# EAGLE library part ATX-PSU-24 (library parts)
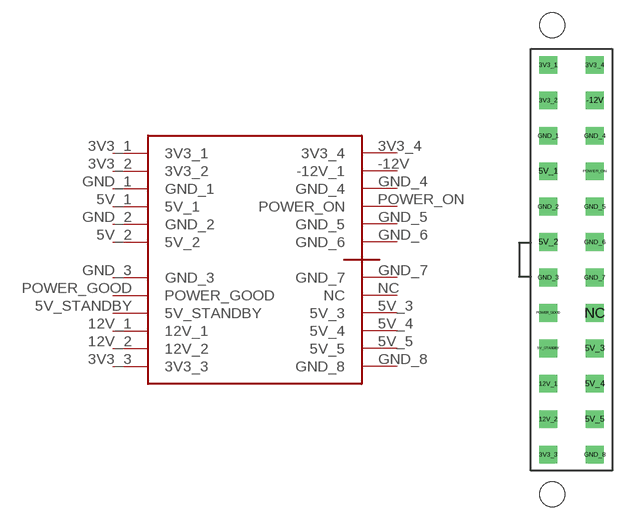
[diagram p0: symbol with the pads of ATX-PSU-24-STRAIGHT; footprint ATX-PSU-24-STRAIGHT]

Designator prefix -

## ATX-PSU-24  [ATX-PSU-24-STRAIGHT]
3V3_1  3V3_1
3V3_2  3V3_2
3V3_3  3V3_3
3V3_4  3V3_4
5V_1  5V_1
5V_2  5V_2
5V_3  5V_3
5V_4  5V_4
5V_5  5V_5
5V_STANDBY  5V_STANDBY
12V_1  12V_1
12V_2  12V_2
-12V  -12V_1
GND_1  GND_1
GND_2  GND_2
GND_3  GND_3
GND_4  GND_4
GND_5  GND_5
GND_6  GND_6
GND_7  GND_7
GND_8  GND_8
NC  NC
POWER_GOOD  POWER_GOOD
POWER_ON  POWER_ON

## Footprint ATX-PSU-24-STRAIGHT (pad centres in mm)
drill 1.4 square: 3V3_1 -2.75,23.1; 3V3_2 -2.75,18.9; 3V3_3 -2.75,-23.1; 3V3_4 2.75,23.1; 5V_1 -2.75,10.5; 5V_2 -2.75,2.1; 5V_3 2.75,-10.5; 5V_4 2.75,-14.7; 5V_5 2.75,-18.9; 5V_STANDBY -2.75,-10.5; 12V_1 -2.75,-14.7; 12V_2 -2.75,-18.9; -12V 2.75,18.9; GND_1 -2.75,14.7; GND_2 -2.75,6.3; GND_3 -2.75,-2.1; GND_4 2.75,14.7; GND_5 2.75,6.3; GND_6 2.75,2.1; GND_7 2.75,-2.1; GND_8 2.75,-23.1; NC 2.75,-6.3; POWER_GOOD -2.75,-6.3; POWER_ON 2.75,10.5
hole 3 at -2.29,27.8
hole 3 at -2.29,-27.8